# Altium schematic symbol library HLK-10M05.SCHLIB: 1 symbol
Pins are listed as number, name and electrical type; pins without a type are passive.

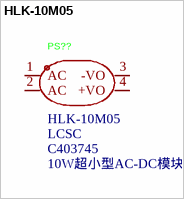
[diagram p0: symbol HLK-10M05]

## HLK-10M05
designator PS??  LCSC Part Name: 10W超小型AC-DC模块电源  Supplier Part: C403745  Supplier: LCSC  (hidden comment: HLK-10M05)
Manufacturer: HI-LINK(海凌科); Add into BOM: yes; Symbol: HLK-10M05; Device: HLK-10M05; Supplier Footprint: DIP,46.9x27.8mm; JLCPCB Part Class: Extended Part; Datasheet: https://item.szlcsc.com/datasheet/HLK-10M05/389994.html; Convert to PCB: yes; Manufacturer Part: HLK-10M05
footprint PWRM-TH_HLK-10M05
3D model PWRM-TH_HLK-10M05
pins: 1 AC, 2 AC, 3 -VO, 4 +VO